# Altium footprint library IND_IHLP_1212BZ_GEN.PcbLib: 1 footprints
Each footprint in its own frame and in the unit in brackets; x right, y up, seen from the top. Pads: shape width x height; smd on the part's side, far side on the other; paste and mask are expansions set on the pad; w line width, h text height; cw(c..) or ccw(c..) is an arc to the next point about the centre after c.
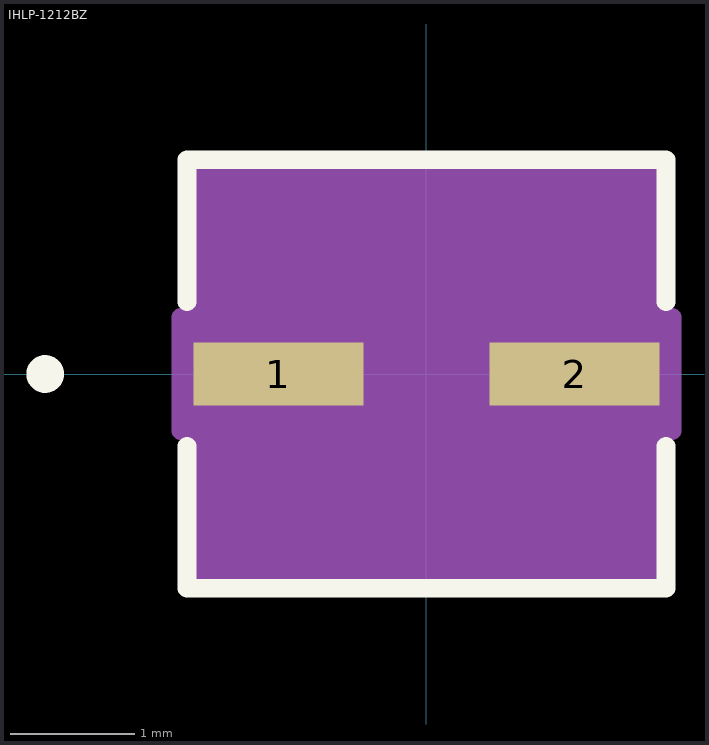
[diagram p0: the footprint, top view; thin cyan lines are the x and y axes]

## IHLP-1212BZ [mil]
height 78.74
pads (2):
  rect 54x20 smd paste+0 mask+0: 1(-47,0) 2(47,0)
Top Overlay:
  circle w6: c-121,0 r3
  lines w6: -76,-22.95 -76,-68 76,-68 76,-22.95 ; -76,22.95 -76,68 76,68 76,22.95
Mechanical 13:
  circle w0: c-51,0 r3
  lines w1: -71,-63 71,-63 71,63 -71,63 -71,-63
Mechanical 15:
  region: -75,-18 -78,-18 -78,18 -75,18 -75,67 75,67 75,18 78,18 78,-18 75,-18 75,-67 -75,-67
  lines w6: -78,-18 -78,18 -75,18 -75,67 75,67 75,18 78,18 78,-18 75,-18 75,-67 -75,-67 -75,-18 -78,-18
3D body: height 10, standoff 0, extent 0,0 10,10
3D body: height 10, standoff 0, extent -130,50 -130,50
3D body "IND_IHLP-1212BZ.step": height 80.98, standoff 0, extent -70.98,-62.99 70.99,63